# Altium footprint library SOD-882.PcbLib: 1 footprints
Each footprint in its own frame and in the unit in brackets; x right, y up, seen from the top. Pads: shape width x height; smd on the part's side, far side on the other; paste and mask are expansions set on the pad; w line width, h text height; cw(c..) or ccw(c..) is an arc to the next point about the centre after c.
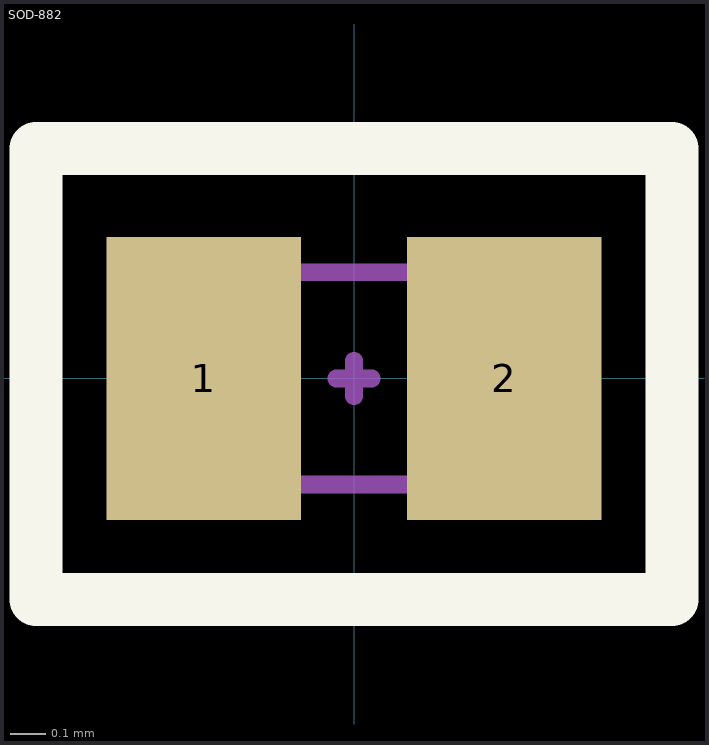
[diagram p0: the footprint, top view; thin cyan lines are the x and y axes]

## SOD-882 [mm]
pads (2):
  rect 0.55x0.8 smd mask+0.051: 1(-0.425,0) 2(0.425,0)
Top Overlay:
  lines w0.15: -0.9,-0.625 -0.9,0.65 0.9,0.65 0.9,-0.625 -0.9,-0.625
Mechanical 13:
  lines w0.05: -0.485,-0.3 -0.485,0.3 0.515,0.3 0.515,-0.3 -0.485,-0.3
Mechanical 15:
  lines w0.05: -0.05,0 0,0 ; 0,-0.05 0,0 ; 0,0.05 0,0 ; 0.05,0 0,0
3D body "SOD-882.STEP": height 0.5, standoff 0, extent -0.492,-0.292 0.493,0.293